# EAGLE library part SWITCH-6PINS-2MM (library Brenocq-eagle)
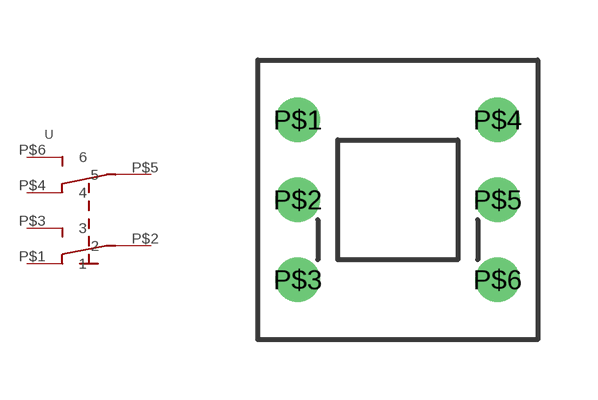
[diagram p0: symbol with the pads of SWITCH-6PINS-2MM; footprint SWITCH-6PINS-2MM]

Designator prefix -

## SWITCH-6PINS-2MM  [SWITCH-6PINS-2MM]
P$1  1
P$2  2
P$3  3
P$4  4
P$5  5
P$6  6

## Footprint SWITCH-6PINS-2MM (pad centres in mm)
drill 0.6: P$1 -2.5,2; P$2 -2.5,0; P$3 -2.5,-2; P$4 2.5,2; P$5 2.5,0; P$6 2.5,-2